# EAGLE library part TPS63000DRCT (library TPS63000DRCT)
TPS63000DRCT Buck/Boost Converter, 1.2A, Adjustable, 1.2 5.5 V, 1500 kHz, 10-Pin SON EP Source: Datasheet <http://www.ti.com/lit/ds/symlink/tps63000.pdf>
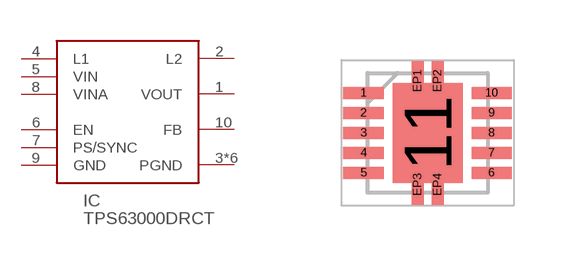
[diagram p0: symbol with the pads of SON50P300X300X100-11N; footprint SON50P300X300X100-11N]

Designator prefix IC

## TPS63000DRCT (ARROW_PART_NUMBER: TPS63000DRCT; ARROW_PRICE/STOCK: https://www.arrow.com/en/products/tps63000drct/texas-instruments; DESCRIPTION: TPS63000DRCT Buck/Boost Converter, 1.2A, Adjustable, 1.2 5.5 V, 1500 kHz, 10-Pin SON EP; HEIGHT: 1mm; MANUFACTURER_NAME: Texas Instruments; MANUFACTURER_PART_NUMBER: TPS63000DRCT; RS_PART_NUMBER: 0389334P; RS_PRICE/STOCK: http://uk.rs-online.com/web/p/products/0389334P)  [SON50P300X300X100-11N]
1  VOUT  out
2  L2
3  PGND  pwr
4  L1
5  VIN  in
6  EN
7  PS/SYNC
8  VINA  in
9  GND  pwr
10  FB
11  PGND  pwr
EP1  PGND  pwr
EP2  PGND  pwr
EP3  PGND  pwr
EP4  PGND  pwr

## Footprint SON50P300X300X100-11N (pad centres in mm)
10-Pin QFN
smd 1 x 0.3: 1 -1.6,1; 2 -1.6,0.5; 3 -1.6,0; 4 -1.6,-0.5; 5 -1.6,-1; 6 1.6,-1; 7 1.6,-0.5; 8 1.6,0; 9 1.6,0.5; 10 1.6,1
smd 1.75 x 2.5: 11 0,0
smd 0.3 x 1: EP1 -0.25,1.3; EP2 0.25,1.3; EP3 -0.25,-1.3; EP4 0.25,-1.3